# EAGLE library part SN74LVC1G19DBVR (library SamacSys_Parts)
Texas Instruments SN74LVC1G19DBVR, Decoder, Demultiplexer, 1-of-2, Non-Inverting, 1.65 5.5 V, 6-Pin SOT-23 Source: Datasheet <http://www.ti.com/lit/gpn/sn74lvc1g19>
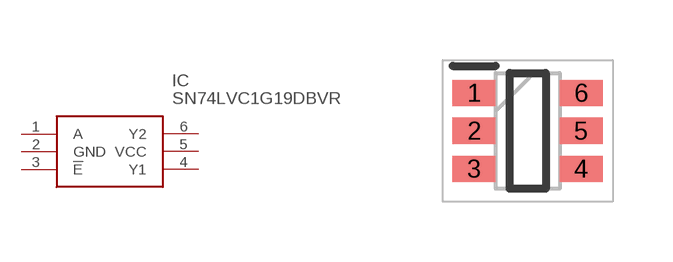
[diagram p123: symbol with the pads of SOP95P280X145-6N; footprint SOP95P280X145-6N]

Designator prefix IC

## SN74LVC1G19DBVR (DESCRIPTION: Texas Instruments SN74LVC1G19DBVR, Decoder, Demultiplexer, 1-of-2, Non-Inverting, 1.65 5.5 V, 6-Pin SOT-23; HEIGHT: 1.45mm; MANUFACTURER_NAME: Texas Instruments; MANUFACTURER_PART_NUMBER: SN74LVC1G19DBVR; MOUSER_PART_NUMBER: 595-SN74LVC1G19DBVR; MOUSER_PRICE-STOCK: https://www.mouser.co.uk/ProductDetail/Texas-Instruments/SN74LVC1G19DBVR?qs=pajgIaoyDUgJmaIdiey4Sw%3D%3D)  [SOP95P280X145-6N]
1  A  in
2  GND  pwr
3  !E  in
4  Y1  out
5  VCC  pwr
6  Y2  out

## Footprint SOP95P280X145-6N (pad centres in mm)
DBV (R-PDSO-G6)-1
smd 1.075 x 0.65: 1 -1.338,0.95; 2 -1.338,0; 3 -1.338,-0.95; 4 1.338,-0.95; 5 1.338,0; 6 1.338,0.95